# Altium schematic symbol library LM2733.SchLib: 1 symbol
Pins are listed as number, name and electrical type; pins without a type are passive.

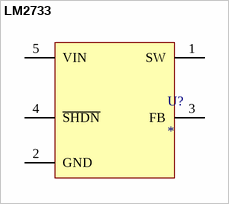
[diagram p0: symbol LM2733]

## LM2733
designator U?
pins: 1 SW, 2 GND, 3 FB, 4 ~{SHDN}, 5 VIN